# EAGLE library part SSW-123-02-S-S (library con-samtec)
THROUGH-HOLE .025" SQ POST SOCKET Source: Samtec SSW.pdf
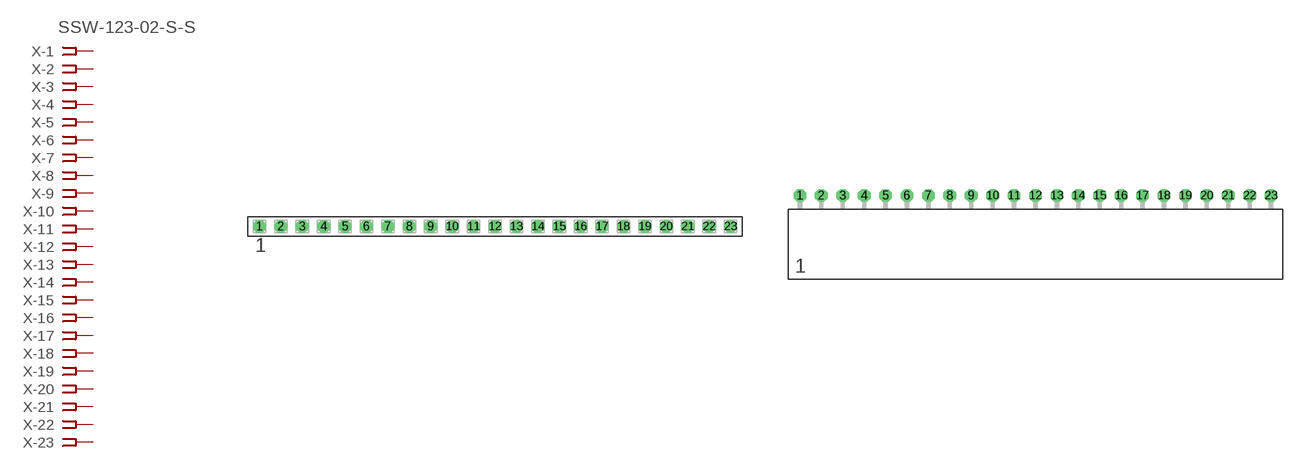
[diagram p81: symbol with the pads of SSW-123-02-S-S; footprints SSW-123-02-S-S, SSW-123-02-S-S-RA]

Designator prefix X; gates -1=FPINV -2=FPIN -3=FPIN -4=FPIN -5=FPIN -6=FPIN -7=FPIN -8=FPIN -9=FPIN -10=FPIN -11=FPIN -12=FPIN -13=FPIN -14=FPIN -15=FPIN -16=FPIN -17=FPIN -18=FPIN -19=FPIN -20=FPIN -21=FPIN -22=FPIN -23=FPIN

## SSW-123-02-S-S  [SSW-123-02-S-S]
1  -1:1  pas
2  -2:1  pas
3  -3:1  pas
4  -4:1  pas
5  -5:1  pas
6  -6:1  pas
7  -7:1  pas
8  -8:1  pas
9  -9:1  pas
10  -10:1  pas
11  -11:1  pas
12  -12:1  pas
13  -13:1  pas
14  -14:1  pas
15  -15:1  pas
16  -16:1  pas
17  -17:1  pas
18  -18:1  pas
19  -19:1  pas
20  -20:1  pas
21  -21:1  pas
22  -22:1  pas
23  -23:1  pas

## SSW-123-02-S-S-RA  [SSW-123-02-S-S-RA]
Pads as for SSW-123-02-S-S

## Footprint SSW-123-02-S-S (pad centres in mm)
THROUGH-HOLE .025" SQ POST SOCKET Source: Samtec SSW.pdf
drill 1 pad 1.5 octagon: 1 -27.94,0; 2 -25.4,0; 3 -22.86,0; 4 -20.32,0; 5 -17.78,0; 6 -15.24,0; 7 -12.7,0; 8 -10.16,0; 9 -7.62,0; 10 -5.08,0; 11 -2.54,0; 12 0,0; 13 2.54,0; 14 5.08,0; 15 7.62,0; 16 10.16,0; 17 12.7,0; 18 15.24,0; 19 17.78,0; 20 20.32,0; 21 22.86,0; 22 25.4,0; 23 27.94,0

## Footprint SSW-123-02-S-S-RA (pad centres in mm)
THROUGH-HOLE .025" SQ POST SOCKET Source: Samtec SSW.pdf
drill 1 pad 1.5 octagon: 1 -27.94,1.524; 2 -25.4,1.524; 3 -22.86,1.524; 4 -20.32,1.524; 5 -17.78,1.524; 6 -15.24,1.524; 7 -12.7,1.524; 8 -10.16,1.524; 9 -7.62,1.524; 10 -5.08,1.524; 11 -2.54,1.524; 12 0,1.524; 13 2.54,1.524; 14 5.08,1.524; 15 7.62,1.524; 16 10.16,1.524; 17 12.7,1.524; 18 15.24,1.524; 19 17.78,1.524; 20 20.32,1.524; 21 22.86,1.524; 22 25.4,1.524; 23 27.94,1.524